# Altium footprint library SparkFun-Connectors.PCBLIB: 376 footprints (part 22 of 24)
Each footprint in its own frame and in the unit in brackets; x right, y up, seen from the top. Pads: shape width x height; smd on the part's side, far side on the other; paste and mask are expansions set on the pad; w line width, h text height; cw(c..) or ccw(c..) is an arc to the next point about the centre after c.
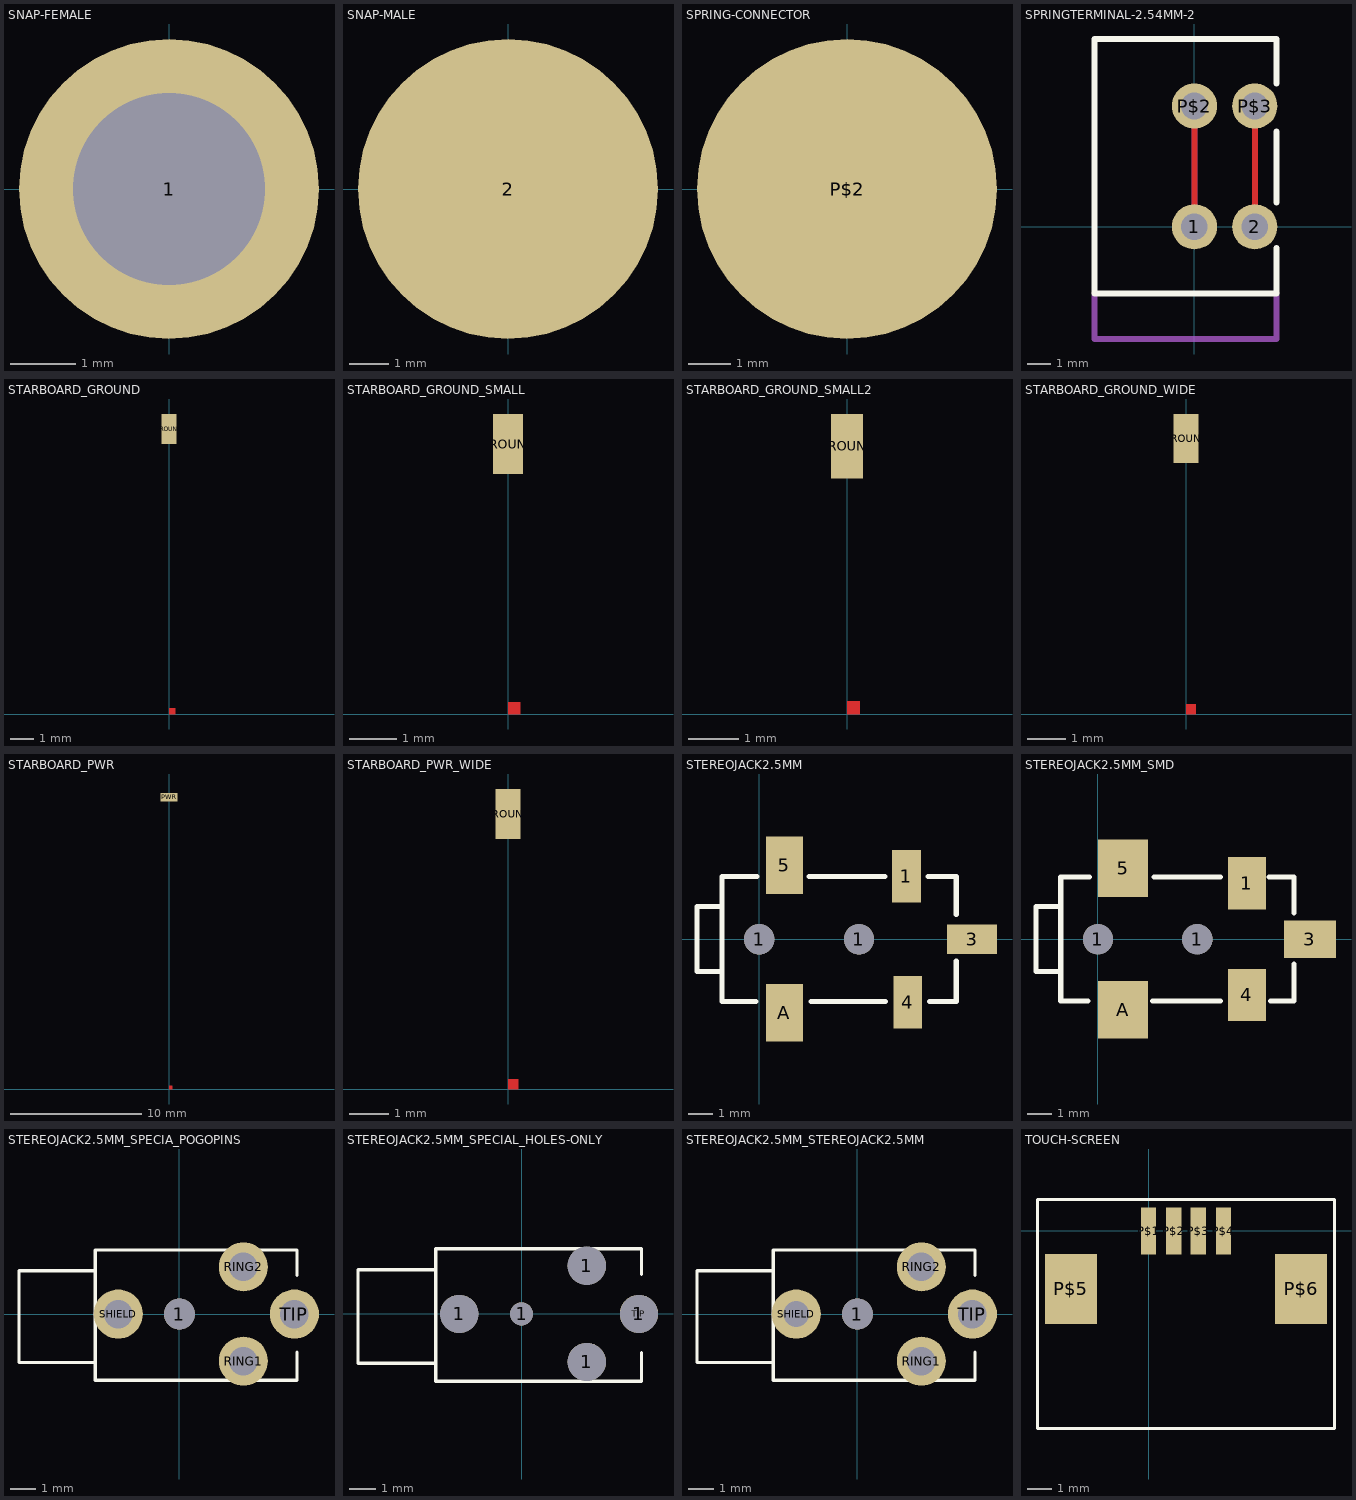
[diagram p21: the footprints below, top view; thin cyan lines are the x and y axes]

## SNAP-FEMALE [mil]
pads (1):
  round 180 hole 115: 1(0,0)
Top Layer:
  region: 0,0 10,0 10,10 0,10
Top Paste:
  region: 0,0 10,0 10,10 0,10
Top Solder:
  region: 0,0 10,0 10,10 0,10
Mechanical 8:
  region: 0,0 10,0 10,10 0,10

## SNAP-MALE [mil]
pads (1):
  rrect100% 300x300 smd: 2(0,0)

## SPRING-CONNECTOR [mil]
pads (1):
  rrect100% 280x280 smd: P$2(0,0)
Mechanical 2:
  text ">NAME" at -53,222 h77.5
Mechanical 4:
  text ">VALUE" at -50,-225 h77.5

## SPRINGTERMINAL-2.54MM-2 [mil]
pads (4):
  round 75 hole 44: 1(0,0) 2(100,0) P$2(0,200) P$3(100,200)
Top Layer:
  lines w10: 0,0 0,200 ; 100,0 100,200
Bottom Layer:
  lines w10: 0,0 0,200 ; 100,0 100,200
Top Overlay:
  lines w10: 136,-35.43 136,-110.24 -165.35,-110.24 -165.35,311 136,311 136,237 ; 136,40 136,158
Mechanical 16:
  lines w10: -165.35,-110.24 -165.35,-185.83 136,-185.83 136,-110.24

## STARBOARD_GROUND [mil]
pads (1):
  rect 25x50 smd: GROUND(0,475)
Top Layer:
  region: 0,0 10,0 10,10 0,10
Top Solder:
  region: 0,0 10,0 10,10 0,10

## STARBOARD_GROUND_SMALL [mil]
pads (1):
  rect 25x50 smd: GROUND(0,225)
Top Layer:
  region: 0,0 10,0 10,10 0,10
Top Solder:
  region: 0,0 10,0 10,10 0,10

## STARBOARD_GROUND_SMALL2 [mil]
pads (1):
  rect 25x50 smd: GROUND(0,208)
Top Layer:
  region: 0,0 10,0 10,10 0,10
Top Solder:
  region: 0,0 10,0 10,10 0,10

## STARBOARD_GROUND_WIDE [mil]
pads (1):
  rect 25x50 smd: GROUND(0,280)
Top Layer:
  region: 0,0 10,0 10,10 0,10
Top Solder:
  region: 0,0 10,0 10,10 0,10

## STARBOARD_PWR [mil]
pads (1):
  rect 50x25 smd: PWR(0,875)
Top Layer:
  region: 0,0 10,0 10,10 0,10
Top Solder:
  region: 0,0 10,0 10,10 0,10

## STARBOARD_PWR_WIDE [mil]
pads (1):
  rect 25x50 smd: GROUND(0,275)
Top Layer:
  region: 0,0 10,0 10,10 0,10
Top Solder:
  region: 0,0 10,0 10,10 0,10

## STEREOJACK2.5MM [mil]
pads (7):
  round 48 hole 48: 1(0,0) 1(158,0)
  rect 46x83 smd: 1(233,100)
  rect 79x47 smd: 3(337,0)
  rect 45x83 smd: 4(235,-100)
  rect 58x91 smd: 5(40,117) A(40,-116.2)
Top Overlay:
  lines w8: -4.75,-98.43 -59.06,-98.43 -59.06,-51.18 ; -3.78,99 -59.06,99 -59.06,52 ; 79,99 199,99 ; 82,-98.43 200,-98.43 ; 267,99 312,99 312,39 ; 270,-98.43 312,-98.43 312,-34.37 ; -59.06,-51.18 -59.06,52 ; -59.06,-51.18 -98.43,-51.18 -98.43,52 -59.06,52

## STEREOJACK2.5MM_SMD [mil]
pads (7):
  round 48 hole 48: 1(0,0) 1(158,0)
  rect 60x83 smd: 1(237,89) 4(237,-88.58)
  rect 83x60 smd: 3(337,0)
  rect 79x91 smd: 5(40,113) A(40,-112.2)
Top Overlay:
  lines w8: -15.75,-98.43 -59.06,-98.43 -59.06,-51.18 ; -13.78,99 -59.06,99 -59.06,52 ; 87,-98.43 195,-98.43 ; 89,99 195,99 ; 272,99 312,99 312,42 ; 274,-98.43 312,-98.43 312,-39.37 ; -59.06,-51.18 -59.06,0 -59.06,52 ; -59.06,-51.18 -98.43,-51.18 -98.43,0 -98.43,52 -59.06,52
Mechanical 2:
  text ">Name" at -39.37,197 h62
Mechanical 4:
  text ">Value" at -39.37,-236.22 h62

## STEREOJACK2.5MM_SPECIA_POGOPINS [mil]
pads (5):
  round 48 hole 48: 1(0,0)
  round 76 hole 44: RING1(99,-72.83) RING2(99,73) SHIELD(-94.49,0) TIP(178,0)
Top Overlay:
  lines w5: 182,-59.06 182,-102.36 -129.92,-102.36 -129.92,-74.8 ; 182,60 182,99 -129.92,99 -129.92,67 ; -129.92,-74.8 -129.92,67 ; -129.92,-74.8 -248.03,-74.8 -248.03,67 -129.92,67

## STEREOJACK2.5MM_SPECIAL_HOLES-ONLY [mil]
pads (9):
  round 58 hole 58: 1(-94.49,0) 1(99,-72.83) 1(99,73) 1(178,0)
  round 35 hole 35: 1(0,0)
  round 32 hole 35: RING1(99,-72.83) RING2(99,73) SHIELD(-94.49,0) TIP(178,0)
Top Overlay:
  lines w5: 182,-59.06 182,-102.36 -129.92,-102.36 -129.92,-74.8 ; 182,60 182,99 -129.92,99 -129.92,67 ; -129.92,-74.8 -129.92,67 ; -129.92,-74.8 -248.03,-74.8 -248.03,67 -129.92,67

## STEREOJACK2.5MM_STEREOJACK2.5MM [mil]
pads (5):
  round 48 hole 48: 1(0,0)
  round 76 hole 44: RING1(99,-72.83) RING2(99,73) TIP(178,0)
  round 76 hole 40: SHIELD(-94.49,0)
Top Overlay:
  lines w5: 174,99 166,99 ; 182,-59.06 182,-102.36 -129.92,-102.36 -129.92,-74.8 ; 182,60 182,99 166,99 ; -129.92,-74.8 -129.92,67 ; -129.92,-74.8 -248.03,-74.8 -248.03,67 -129.92,67 ; -129.92,67 -129.92,99 166,99

## TOUCH-SCREEN [mil]
pads (6):
  rect 24x75 smd: P$1(0,0) P$2(40,0) P$3(79,0) P$4(119,0)
  rect 83x111 smd: P$5(-124.02,-92.52) P$6(243,-92.52)
Top Overlay:
  lines w5: -177.17,-314.96 296,-314.96 296,50 -177.17,50 -177.17,-314.96